# Altium footprint library TBBOARD.PcbLib: 3 footprints
Each footprint in its own frame and in the unit in brackets; x right, y up, seen from the top. Pads: shape width x height; smd on the part's side, far side on the other; paste and mask are expansions set on the pad; w line width, h text height; cw(c..) or ccw(c..) is an arc to the next point about the centre after c.
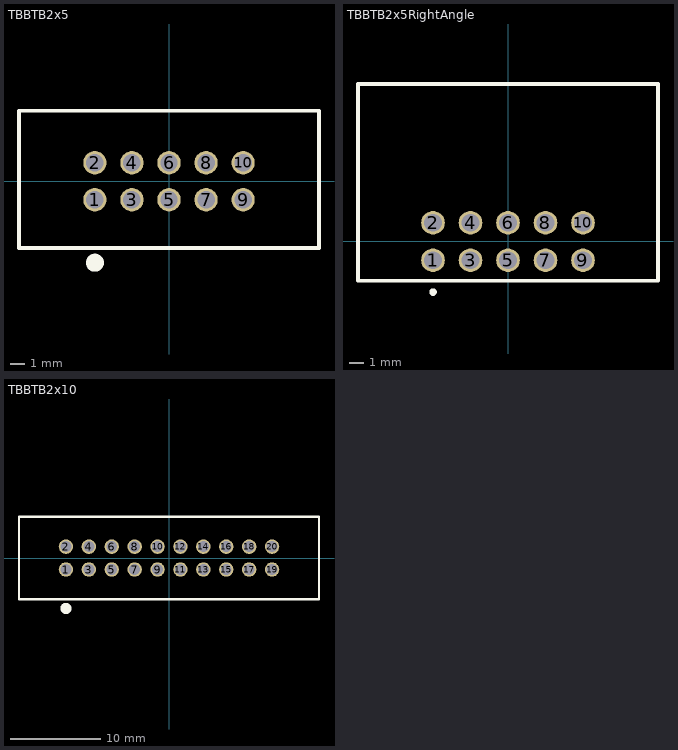
[diagram p0: the footprints below, top view; thin cyan lines are the x and y axes]

## TBBTB2x5 [mm] "Board to Board 2x5 Pitch 2.54mm"
pads (10):
  round 1.6 hole 1.2: 1(-5.08,-1.27) 2(-5.08,1.27) 3(-2.54,-1.27) 4(-2.54,1.27) 5(0,-1.27) 6(0,1.27) 7(2.54,-1.27) 8(2.54,1.27) 9(5.08,-1.27) 10(5.08,1.27)
Top Overlay:
  circle w0.635: c-5.08,-5.588 r0.3
  lines w0.254: -10.287,-4.572 -10.287,4.826 10.287,4.826 10.287,-4.572 -10.287,-4.572
3D body: height 9, standoff -3, extent -10.16,-4.423 10.16,4.677

## TBBTB2x5RightAngle [mm]
pads (10):
  round 1.6 hole 1.2: 1(-5.08,-1.27) 2(-5.08,1.27) 3(-2.54,-1.27) 4(-2.54,1.27) 5(0,-1.27) 6(0,1.27) 7(2.54,-1.27) 8(2.54,1.27) 9(5.08,-1.27) 10(5.08,1.27)
Top Overlay:
  circle w0.254: c-5.08,-3.429 r0.127
  lines w0.254: -10.16,-2.667 10.16,-2.667 10.16,10.668 -10.16,10.668 -10.16,-2.667
3D body: height 8.84, standoff -2.77, extent -10.147,-1.651 10.147,11.9

## TBBTB2x10 [mm] "Board to Board 2x10 Pitch 2.54mm"
pads (20):
  round 1.6 hole 1.2: 1(-11.43,-1.27) 2(-11.43,1.27) 3(-8.89,-1.27) 4(-8.89,1.27) 5(-6.35,-1.27) 6(-6.35,1.27) 7(-3.81,-1.27) 8(-3.81,1.27) 9(-1.27,-1.27) 10(-1.27,1.27) 11(1.27,-1.27) 12(1.27,1.27) 13(3.81,-1.27) 14(3.81,1.27) 15(6.35,-1.27) 16(6.35,1.27) 17(8.89,-1.27) 18(8.89,1.27) 19(11.43,-1.27) 20(11.43,1.27)
Top Overlay:
  circle w0.635: c-11.43,-5.588 r0.3
  lines w0.254: -16.637,-4.572 16.637,-4.572 16.637,4.572 -16.637,4.572 -16.637,-4.572
3D body: height 8.5, standoff -3.7, extent -16.35,-4.227 16.35,4.273